# Altium footprint library LM2596S-ADJ.PcbLib: 1 footprints
Each footprint in its own frame and in the unit in brackets; x right, y up, seen from the top. Pads: shape width x height; smd on the part's side, far side on the other; paste and mask are expansions set on the pad; w line width, h text height; cw(c..) or ccw(c..) is an arc to the next point about the centre after c.
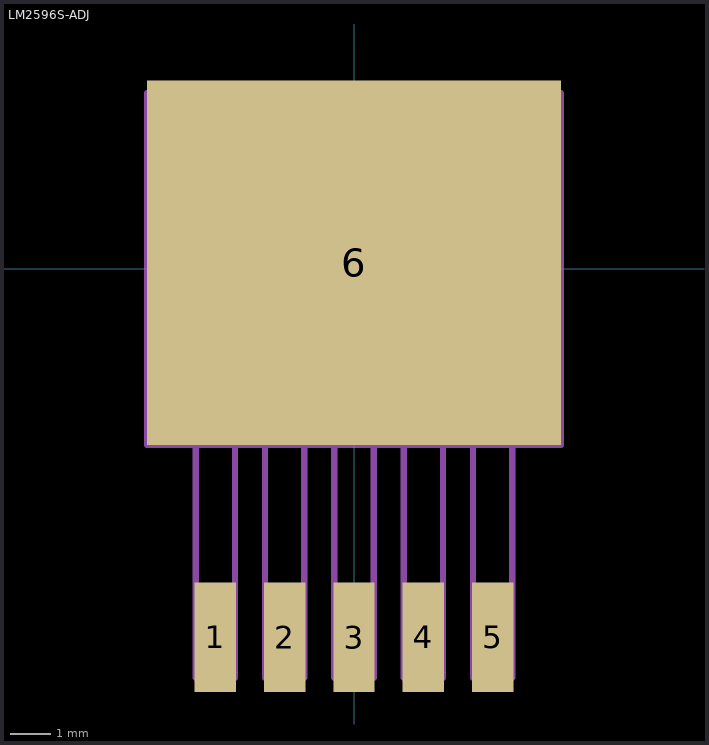
[diagram p0: the footprint, top view; thin cyan lines are the x and y axes]

## LM2596S-ADJ [mil]
pads (6):
  rect 40x106 smd: 1(-134,-356) 2(-67,-356) 3(0,-356) 4(67,-356) 5(134,-356)
  rect 400x352 smd: 6(0,6)
Mechanical 13:
  lines w6: -200,-170 200,-170 200,170 -200,170 -200,-170 ; -153,-395 -153,-170 -115,-170 -115,-395 -153,-395 ; -86,-395 -86,-170 -48,-170 -48,-395 -86,-395 ; -19,-395 -19,-170 19,-170 19,-395 -19,-395 ; 48,-395 48,-170 86,-170 86,-395 48,-395 ; 115,-395 115,-170 153,-170 153,-395 115,-395
3D body "step_temp.STEP": height 185.07, standoff -3.91, extent -200,-349.96 200,215